# Altium schematic symbol library POPA928DR.SchLib: 1 symbol
Pins are listed as number, name and electrical type; pins without a type are passive.

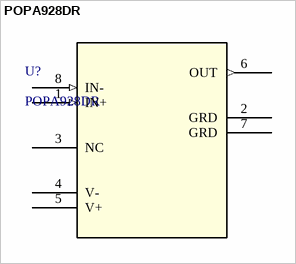
[diagram p0: symbol POPA928DR]

## POPA928DR
designator U?
High-voltage femtoampere-input-bias precision e-trimâ„¢ operational amplifier with RRIO 8-SOIC -40 to 85; Manufacturer_Name: Texas Instruments; Type: Linear; Copyright: Copyright (C) 2026 Ultra Librarian. All rights reserved.; Manufacturer_Part_Number: POPA928DR; RefDes: RefDes
footprint SOIC8_D_TEX
pins: 1 IN+ (in), 2 GRD, 3 NC, 4 V- (power), 5 V+ (power), 6 OUT (out), 7 GRD, 8 IN- (in)